# EAGLE library part RV-3049-C3 (library BQ25504)
The RV-3049-C3 is an ultra miniature Real-Time-Clock Module with embedded Crystal. This RTC has an SPI Bus (4-wire Serial- Interface) and offers temperature compensated time.
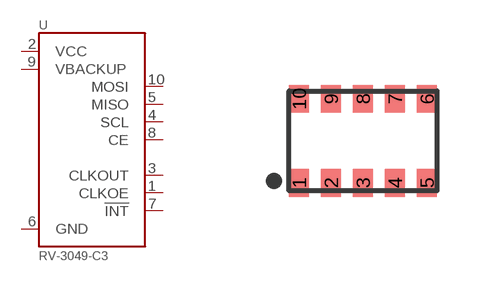
[diagram p12: symbol with the pads of MICRO-CRYSTAL-C3; footprint MICRO-CRYSTAL-C3]

Designator prefix U

## RV-3049-C3  [MICRO-CRYSTAL-C3]
1  CLKOE
2  VCC
3  CLKOUT
4  SCL
5  MISO
6  GND
7  !INT
8  CE
9  VBACKUP
10  MOSI

## Footprint MICRO-CRYSTAL-C3 (pad centres in mm)
smd 0.5 x 0.7: 1 -1.6,-1.05; 2 -0.8,-1.05; 3 0,-1.05; 4 0.8,-1.05; 5 1.6,-1.05; 6 1.6,1.05; 7 0.8,1.05; 8 0,1.05; 9 -0.8,1.05; 10 -1.6,1.05